# Altium footprint library PCB_Antenna.PcbLib: 7 footprints
Each footprint in its own frame and in the unit in brackets; x right, y up, seen from the top. Pads: shape width x height; smd on the part's side, far side on the other; paste and mask are expansions set on the pad; w line width, h text height; cw(c..) or ccw(c..) is an arc to the next point about the centre after c.
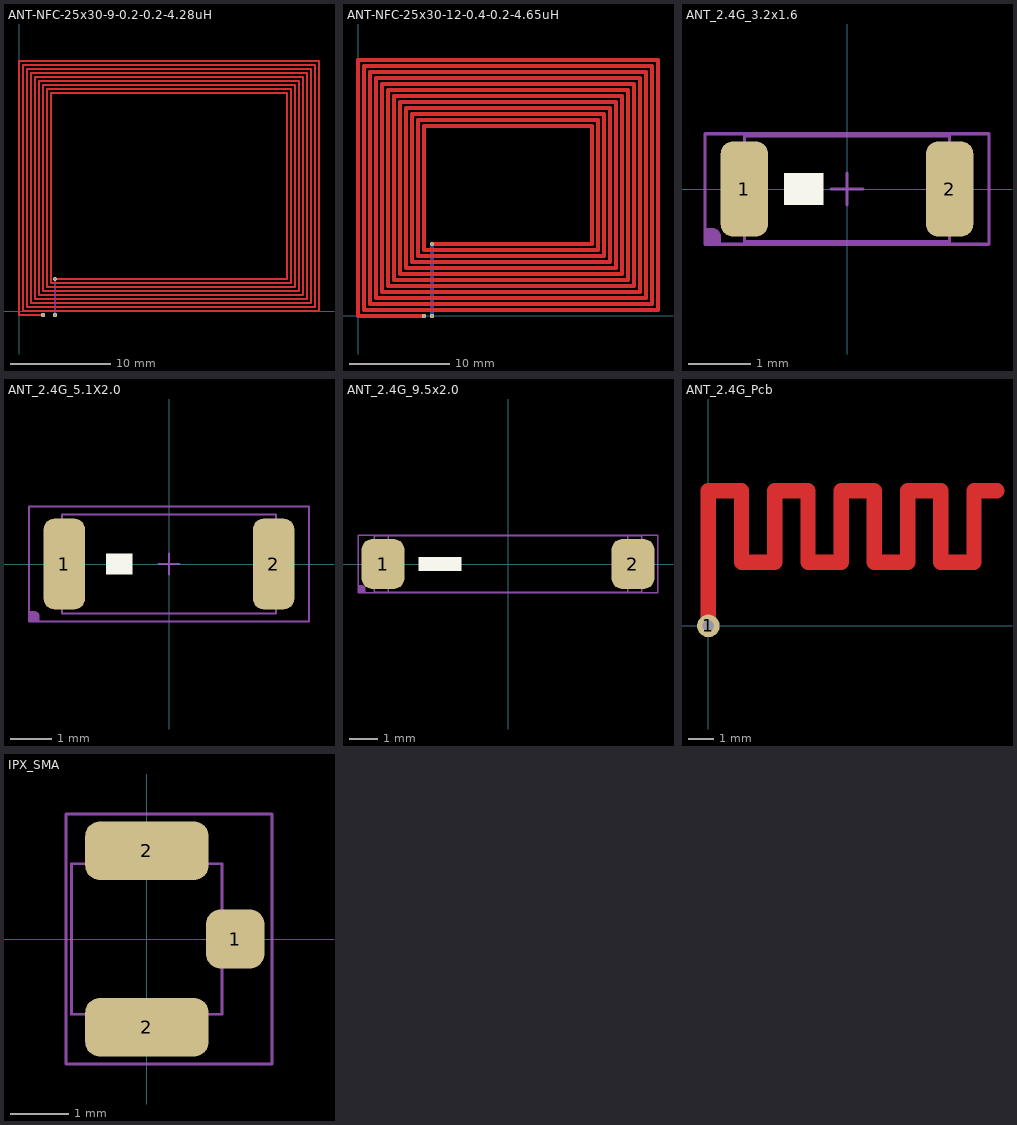
[diagram p0: the footprints below, top view; thin cyan lines are the x and y axes]

## ANT-NFC-25x30-9-0.2-0.2-4.28uH [mm]
pads (2):
  rrect50% 0.4x0.4 smd: 1(2.4,-0.4) 2(3.6,-0.4)
via 3.6,3.2 diameter 0.4 hole 0.2
via 2.4,-0.4 diameter 0.4 hole 0.2
via 3.6,-0.4 diameter 0.4 hole 0.2
Top Layer:
  lines w0.2: 2.4,-0.4 0,-0.4 0,25 30,25 30,0 0.4,0 0.4,24.6 29.6,24.6 29.6,0.4 0.8,0.4 0.8,24.2 29.2,24.2 29.2,0.8 1.2,0.8 1.2,23.8 28.8,23.8 28.8,1.2 1.6,1.2 1.6,23.4 28.4,23.4 28.4,1.6 2,1.6 2,23 28,23 28,2 2.4,2 2.4,22.6 27.6,22.6 27.6,2.4 2.8,2.4 2.8,22.2 27.2,22.2 27.2,2.8 3.2,2.8 3.2,21.8 26.8,21.8 26.8,3.2 3.6,3.2
Bottom Layer:
  lines w0.2: 3.6,-0.4 3.6,3.2

## ANT-NFC-25x30-12-0.4-0.2-4.65uH [mm]
pads (2):
  rrect50% 0.4x0.4 smd: 1(6.6,0) 2(7.4,0)
via 7.4,7.2 diameter 0.4 hole 0.2
via 6.6,0 diameter 0.4 hole 0.2
via 7.4,0 diameter 0.4 hole 0.2
Top Layer:
  lines w0.4: 6.6,0 0,0 0,25.6 30,25.6 30,0.6 0.6,0.6 0.6,25 29.4,25 29.4,1.2 1.2,1.2 1.2,24.4 28.8,24.4 28.8,1.8 1.8,1.8 1.8,23.8 28.2,23.8 28.2,2.4 2.4,2.4 2.4,23.2 27.6,23.2 27.6,3 3,3 3,22.6 27,22.6 27,3.6 3.6,3.6 3.6,22 26.4,22 26.4,4.2 4.2,4.2 4.2,21.4 25.8,21.4 25.8,4.8 4.8,4.8 4.8,20.8 25.2,20.8 25.2,5.4 5.4,5.4 5.4,20.2 24.6,20.2 24.6,6 6,6 6,19.6 24,19.6 24,6.6 6.6,6.6 6.6,19 23.4,19 23.4,7.2 7.4,7.2
Bottom Layer:
  lines w0.4: 7.4,0 7.4,7.2

## ANT_2.4G_3.2x1.6 [mil]
height 47.24
pads (2):
  rrect50% 30x60 smd: 1(-65,0) 2(65,0)
Top Overlay:
  rectangle: -40,-10 -15,10
Mechanical 13:
  lines w2.01: -10,0 10,0 ; 0,-10 0,10 ; -64.96,-33.46 -64.96,33.47 64.96,33.47 64.96,-33.46 -64.96,-33.46
T-Component:
  region: -90,-35 -90,-25 -85,-25 -84.01,-25 -82.17,-25.76 -80.76,-27.17 -80,-29.01 -80,-30 -80,-35
  lines w2: -90,-35 -90,35 90,35 90,-35 -90,-35
  text ".Designator" at -75,-20 h80
3D body "User Library-2450AT18A100E.STEP": height 53.15, standoff -1.97, extent -64.96,-33.46 64.96,33.47

## ANT_2.4G_5.1X2.0 [mm]
pads (2):
  rrect50% 1x2.2 smd: 1(-2.54,0) 2(2.54,0)
Top Overlay:
  rectangle: -1.524,-0.254 -0.889,0.254
Mechanical 13:
  lines w0.051: -0.254,0 0.254,0 ; 0,-0.254 0,0.254 ; -2.6,-1.2 2.6,-1.2 2.6,1.2 -2.6,1.2 -2.6,-1.2
T-Component:
  region: -3.4,-1.4 -3.4,-1.146 -3.273,-1.146 -3.248,-1.146 -3.201,-1.165 -3.165,-1.201 -3.146,-1.248 -3.146,-1.273 -3.146,-1.4
  lines w0.051: -3.4,-1.4 3.4,-1.4 3.4,1.4 -3.4,1.4 -3.4,-1.4
  text ".Designator" at -0.889,-0.508 h2.03
3D body: height 1.28, standoff 0, extent -1.6,-0.254 -1,0.254
3D body: height 1.27, standoff 0, extent -2.6,-1.2 2.6,1.2

## ANT_2.4G_9.5x2.0 [mil]
height 47.24
pads (2):
  rrect50% 60x70 smd: 1(-175,0) 2(175,0)
Top Overlay:
  rectangle: -125,-10 -65,10
Mechanical 13:
  lines w2: -167.32,-39.37 -167.32,39.37 ; 167.32,-39.37 167.32,39.37 ; -187.01,-39.37 187.01,-39.37 187.01,39.37 -187.01,39.37 -187.01,-39.37
T-Component:
  region: -210,-40 -210,-30 -205,-30 -204.01,-30 -202.17,-30.76 -200.76,-32.17 -200,-34.01 -200,-35 -200,-40
  lines w2: -210,-40 210,-40 210,40 -210,40 -210,-40
  text ".Designator" at -75,-20 h80
3D body "User Library-ANTENNA_WLAN.STEP": height 40.16, standoff -0.79, extent -187.8,-40 187.8,40.31

## ANT_2.4G_Pcb [mil]
pads (1):
  round 35 hole 18: 1(0,0)
Top Layer:
  lines w23.62: 0,3.51 0,208.24 51.18,208.24 51.18,98 102.36,98 102.36,208.24 153.54,208.24 153.54,98 204.72,98 204.72,208.24 255.91,208.24 255.91,98 307.09,98 307.09,208.24 358.27,208.24 358.27,98 409.45,98 409.45,208.24 444.88,208.24

## IPX_SMA [mil]
pads (3):
  rrect50% 40x40 smd: 1(60,0)
  rrect50% 84x40 smd: 2(0,-60) 2(0,60)
Mechanical 13:
  lines w2: -51.18,-51.18 -51.18,51.18 51.18,51.18 51.18,-51.18 -51.18,-51.18
T-Component:
  lines w2: -55,-85 -55,85 85,85 85,-85 -55,-85
  text ".Designator" at -60,-20 h80